# Altium footprint library LFQC-10_3x3.PcbLib: 1 footprints
Each footprint in its own frame and in the unit in brackets; x right, y up, seen from the top. Pads: shape width x height; smd on the part's side, far side on the other; paste and mask are expansions set on the pad; w line width, h text height; cw(c..) or ccw(c..) is an arc to the next point about the centre after c.
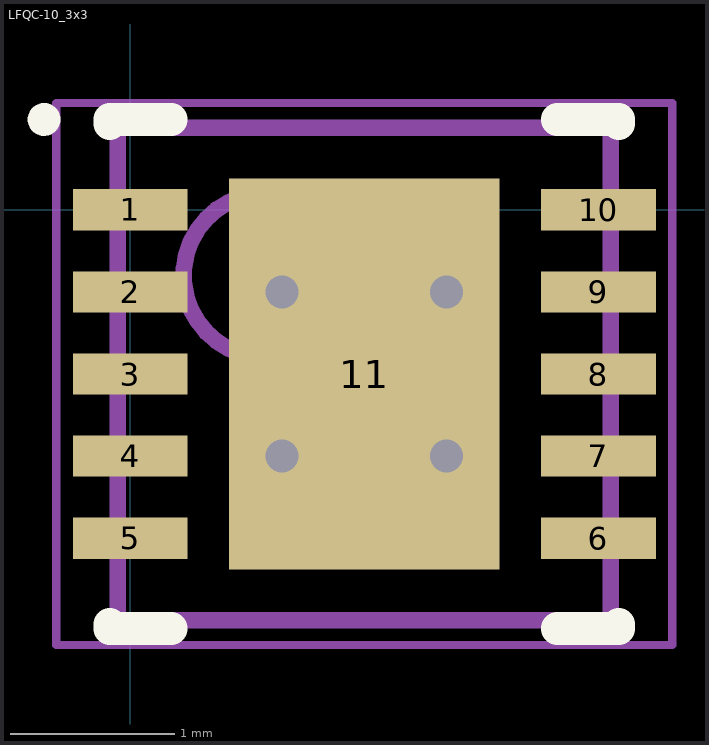
[diagram p0: the footprint, top view; thin cyan lines are the x and y axes]

## LFQC-10_3x3 [mm] "10-Lead (3mm × 3mm) Plastic DFN"
height 0.019
pads (11):
  rect 0.7x0.25 smd mask+0.102: 1(0,0) 2(0,-0.5) 3(0,-1) 4(0,-1.5) 5(0,-2) 6(2.85,-2) 7(2.85,-1.5) 8(2.85,-1) 9(2.85,-0.5) 10(2.85,0)
  rect 1.65x2.38 smd mask+0.102: 11(1.425,-1)
via 0.925,-0.5 diameter 0.5 hole 0.2
via 1.925,-0.5 diameter 0.5 hole 0.2
via 0.925,-1.5 diameter 0.5 hole 0.2
via 1.925,-1.5 diameter 0.5 hole 0.2
Top Overlay:
  circle w0.1: c-0.525,0.55 r0.05
  lines w0.2: -0.125,-2.525 -0.125,-2.55 0.25,-2.55 ; -0.125,0.525 -0.125,0.55 0.25,0.55 ; 2.6,-2.55 2.975,-2.55 2.975,-2.525 ; 2.6,0.55 2.975,0.55 2.975,0.525
Mechanical 13:
  circle w0.1: c0.825,-0.4 r0.5
  lines w0.1: -0.075,-2.5 -0.075,0.5 2.925,0.5 2.925,-2.5 -0.075,-2.5
Mechanical 15:
  lines w0.05: -0.45,-2.65 -0.45,0.65 3.3,0.65 3.3,-2.65 -0.45,-2.65
  lines w0.1: 0.925,-1 1.925,-1 ; 1.425,-1.5 1.425,-0.5
3D body "DFN-10_3x3.STEP": height 0.8, standoff 0, extent -0.085,-2.5 2.935,0.5